# Altium footprint library Capacitor.PcbLib: 6 footprints
Each footprint in its own frame and in the unit in brackets; x right, y up, seen from the top. Pads: shape width x height; smd on the part's side, far side on the other; paste and mask are expansions set on the pad; w line width, h text height; cw(c..) or ccw(c..) is an arc to the next point about the centre after c.
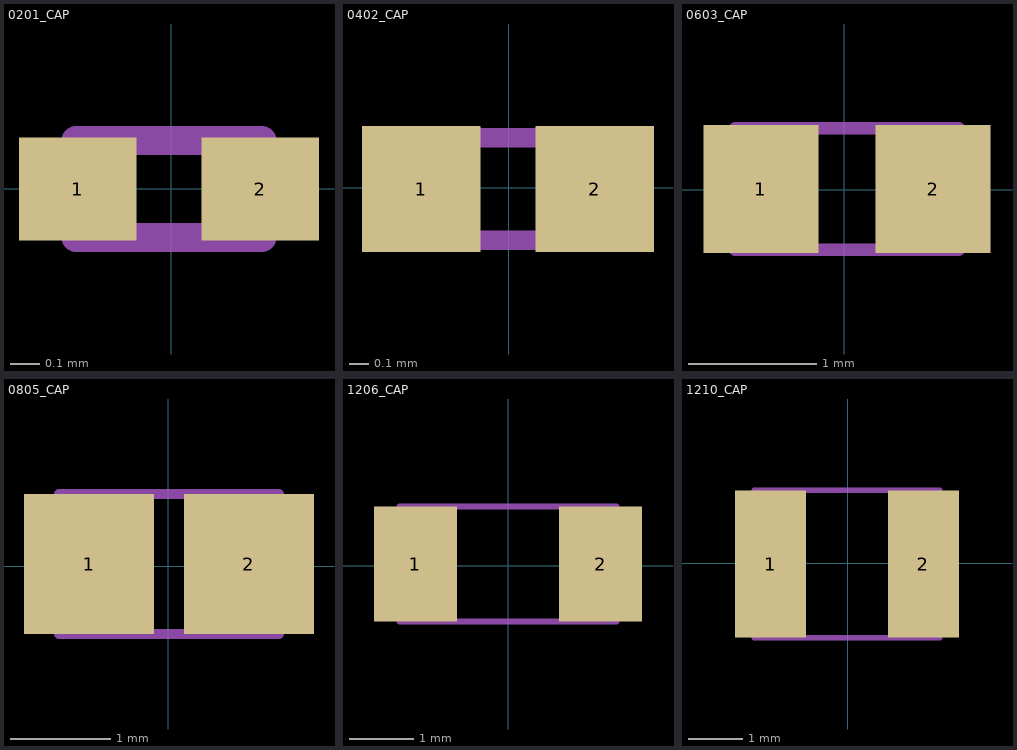
[diagram p0: the footprints below, top view; thin cyan lines are the x and y axes]

## 0201_CAP [mm]
height 0.25
pads (2):
  rect 0.4x0.35 smd: 1(-0.317,0) 2(0.303,0)
Mechanical 13:
  lines w0.1: -0.322,-0.165 0.308,-0.165 0.308,0.165 -0.322,0.165 -0.322,-0.165
3D body "CAP 0201.STEP": height 0.3, standoff 0, extent -0.307,-0.15 0.293,0.15

## 0402_CAP [mm]
pads (2):
  rect 0.6x0.64 smd: 1(-0.444,-0.007) 2(0.436,-0.007)
Mechanical 13:
  lines w0.1: -0.519,-0.267 -0.519,0.253 0.511,0.253 0.511,-0.267 -0.519,-0.267
3D body "0402 cap.STEP": height 0.52, standoff 0, extent -0.504,-0.268 0.496,0.256

## 0603_CAP [mm]
pads (2):
  rect 0.9x1 smd: 1(-0.655,0.006) 2(0.695,0.006)
Mechanical 13:
  lines w0.1: -0.855,-0.469 0.895,-0.469 0.895,0.481 -0.855,0.481 -0.855,-0.469
3D body "0603 cap.STEP": height 0.82, standoff 0, extent -0.78,-0.405 0.82,0.419

## 0805_CAP [mm]
pads (2):
  rect 1.3x1.4 smd: 1(-0.794,0.021) 2(0.806,0.021)
Mechanical 13:
  lines w0.1: -1.094,-0.679 1.106,-0.679 1.106,0.721 -1.094,0.721 -1.094,-0.679
3D body "0805 cap.STEP": height 1.26, standoff -0.02, extent -0.994,-0.616 1.006,0.658

## 1206_CAP [mm]
pads (2):
  rect 1.3x1.8 smd: 1(-1.455,0.03) 2(1.445,0.03)
Mechanical 13:
  lines w0.1: -1.705,-0.87 1.695,-0.87 1.695,0.93 -1.705,0.93 -1.705,-0.87
3D body "CAP 1206-0.8mm.STEP": height 0.8, standoff 0, extent -1.605,-0.77 1.595,0.83

## 1210_CAP [mm]
pads (2):
  rect 1.3x2.7 smd: 1(-1.413,-0.017) 2(1.387,-0.017)
Mechanical 13:
  lines w0.1: -1.713,-1.367 -1.713,1.333 1.687,1.333 1.687,-1.367 -1.713,-1.367
3D body "CAP 1210-1mm.STEP": height 1, standoff 0, extent -1.613,-1.267 1.587,1.233